# Altium footprint library ECG2.0.PcbLib: 24 footprints (part 1 of 2)
Each footprint in its own frame and in the unit in brackets; x right, y up, seen from the top. Pads: shape width x height; smd on the part's side, far side on the other; paste and mask are expansions set on the pad; w line width, h text height; cw(c..) or ccw(c..) is an arc to the next point about the centre after c.
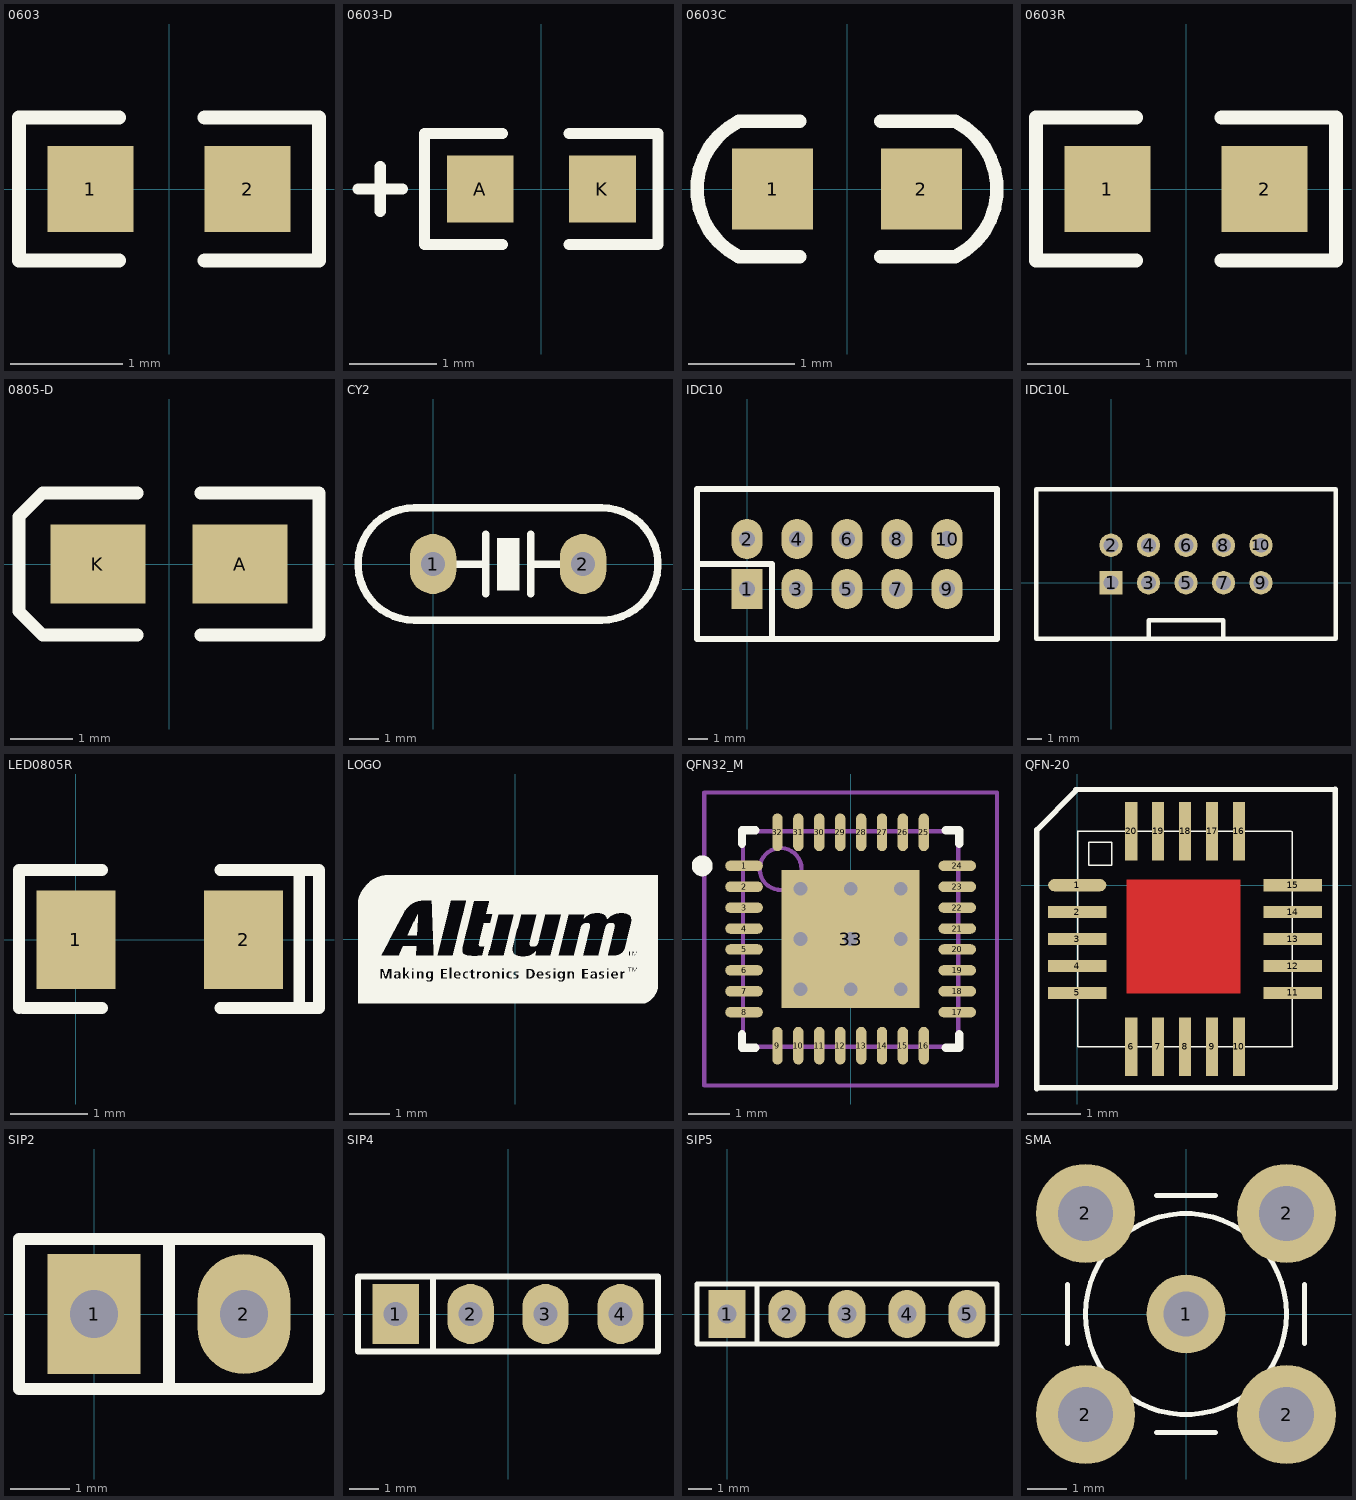
[diagram p0: the footprints below, top view; thin cyan lines are the x and y axes]

## 0603 [mil]
pads (2):
  rect 30x30 smd: 1(-27.5,0) 2(27.5,0)
Top Overlay:
  lines w5: -17.5,-25 -52.5,-25 -52.5,25 -17.5,25 ; 12.5,-25 52.5,-25 52.5,25 12.5,25
3D body "0603_R.step": height 20.79, standoff 0.79, extent -32.5,-15 30.5,17

## 0603-D [mil]
pads (2):
  rect 30x30 smd: A(-27.5,0) K(27.5,0)
Top Overlay:
  lines w5: -82.5,0 -62.5,0 ; -72.5,-10 -72.5,10 ; -17.5,-25 -52.5,-25 -52.5,25 -17.5,25 ; 12.5,-25 52.5,-25 52.5,25 12.5,25
3D body "0603_R.step": height 20.79, standoff 0.79, extent -33,-16 30,16

## 0603C [mil]
pads (2):
  rect 30x30 smd: 1(-27.5,0) 2(27.5,0)
Top Overlay:
  lines w5: -17.5,-25 -40,-25 cw(c-27.5,0) -40,25 -17.5,25 ; 12.5,-25 40,-25 ccw(c27.5,0) 40,25 12.5,25
3D body "0603_C.step": height 34.65, standoff 0, extent -31,-16 31.99,15.89

## 0603R [mil]
height 208.66
pads (2):
  rect 30x30 smd: 1(-27.5,0) 2(27.5,0)
Top Overlay:
  lines w5: -17.5,-25 -52.5,-25 -52.5,25 -17.5,25 ; 12.5,-25 52.5,-25 52.5,25 12.5,25
3D body "0603_R.step": height 20.79, standoff 0.79, extent -32.5,-15 30.5,17

## 0805-D [mil]
pads (2):
  rect 60x50 smd: A(45,0) K(-45,0)
Top Overlay:
  lines w8: -20,-45 -80,-45 -95,-30 -95,30 -80,45 -20,45 ; 20,-45 95,-45 95,45 20,45
3D body "User Library-led_0805.STEP": height 43.31, standoff 0, extent -36.61,-24.21 42.91,25

## CY2 [mil]
pads (2):
  oval 62x80 hole 32: 1(0,0) 2(200,0)
Top Overlay:
  rectangle: 85.01,-35 115.01,35
  lines w10: 0,0 70,0 ; 70,-40 70,0 ; 70,40 70,0 ; 130,-40 130,40 ; 130,0 200,0 ; -25,-75 cw(c-25,0) -25,75 225,75 cw(c225,0) 225,-75 -25,-75
3D body "hc-49s_n.stp": height 137.8, standoff -118.11, extent -116.14,-89.37 309.06,87.8

## IDC10 [mil]
pads (10):
  rect 62x80 hole 32: 1(0,0)
  oval 62x80 hole 32: 2(0,100) 3(100,0) 4(100,100) 5(200,0) 6(200,100) 7(300,0) 8(300,100) 9(400,0) 10(400,100)
Top Overlay:
  lines w12: -100,50 50,50 50,-100 ; -100,-100 500,-100 500,200 -100,200 -100,-100
3D body "User Library-BH-10___64.step": height 348.1, standoff -129.92, extent -200.79,-125 600.79,237.2

## IDC10L [mil]
pads (10):
  rect 62x62 hole 39: 1(0,0)
  round 62 hole 39: 2(0,100) 3(100,0) 4(100,100) 5(200,0) 6(200,100) 7(300,0) 8(300,100) 9(400,0) 10(400,100)
Top Overlay:
  lines w12: 100,-150 100,-100 300,-100 300,-150 ; -200,-150 600,-150 600,250 -200,250 -200,-150

## LED0805R [mil]
pads (2):
  rect 40x50 smd: 1(0,0) 2(85,0)
Top Overlay:
  lines w5.98: 113.15,-34.61 123.15,-34.61 ; 113.15,35.39 123.15,35.39
  lines w6: -28.86,-34.61 -28.86,35.39 13.15,35.39 ; -26.85,-34.61 13.15,-34.61 ; 73.15,-34.61 113.15,-34.61 113.15,35.39 73.15,35.39 ; 123.15,-34.61 123.15,35.39
3D body "User Library-led_0805.STEP": height 43.31, standoff 0, extent 3.39,-24.21 82.91,25

## LOGO [mm]
Top Overlay:
  drawing of 1840 lines, arcs and shapes, not listed

## QFN32_M [mm] "QFN, 32-Leads, Body 5x5mm, Pitch 0.5mm, IPC Low Density"
height 0.8
pads (33):
  oval 0.9x0.25 smd: 1(-2.55,1.75) 2(-2.55,1.25) 3(-2.55,0.75) 4(-2.55,0.25) 5(-2.55,-0.25) 6(-2.55,-0.75) 7(-2.55,-1.25) 8(-2.55,-1.75) 17(2.55,-1.75) 18(2.55,-1.25) 19(2.55,-0.75) 20(2.55,-0.25) 21(2.55,0.25) 22(2.55,0.75) 23(2.55,1.25) 24(2.55,1.75)
  oval 0.25x0.9 smd: 9(-1.75,-2.55) 10(-1.25,-2.55) 11(-0.75,-2.55) 12(-0.25,-2.55) 13(0.25,-2.55) 14(0.75,-2.55) 15(1.25,-2.55) 16(1.75,-2.55) 25(1.75,2.55) 26(1.25,2.55) 27(0.75,2.55) 28(0.25,2.55) 29(-0.25,2.55) 30(-0.75,2.55) 31(-1.25,2.55) 32(-1.75,2.55)
  rect 3.3x3.3 smd: 33(0,0)
via -1.2,1.2 diameter 0.66 hole 0.33
via 0,1.2 diameter 0.66 hole 0.33
via 1.2,1.2 diameter 0.66 hole 0.33
via -1.2,0 diameter 0.66 hole 0.33
via 0,0 diameter 0.66 hole 0.33
via 1.2,0 diameter 0.66 hole 0.33
via -1.2,-1.2 diameter 0.66 hole 0.33
via 0,-1.2 diameter 0.66 hole 0.33
via 1.2,-1.2 diameter 0.66 hole 0.33
Top Overlay:
  circle w0.25: c-3.55,1.75 r0.125
  lines w0.2: -2.6,-2.275 -2.6,-2.6 -2.275,-2.6 ; -2.6,2.275 -2.6,2.6 -2.275,2.6 ; 2.275,-2.6 2.6,-2.6 2.6,-2.275 ; 2.275,2.6 2.6,2.6 2.6,2.275
Mechanical 13:
  circle w0.1: c-1.675,1.675 r0.5
  lines w0.1: -2.575,-2.575 -2.575,2.575 2.575,2.575 2.575,-2.575 -2.575,-2.575
Mechanical 15:
  lines w0.1: -0.5,0 0.5,0 ; 0,-0.5 0,0.5 ; -3.5,-3.5 -3.5,3.5 3.5,3.5 3.5,-3.5 -3.5,-3.5
3D body: height 0.8, standoff 0, extent -2.575,-2.575 2.575,2.575

## QFN-20 [mm]
pads (20):
  oval 1.1x0.23 smd: 1(0,0)
  rect 1.1x0.23 smd: 2(0,-0.508) 3(0,-1.016) 4(0,-1.524) 5(0,-2.032) 11(4.064,-2.032) 12(4.064,-1.524) 13(4.064,-1.016) 14(4.064,-0.508) 15(4.064,0)
  rect 0.23x1.1 smd: 6(1.016,-3.048) 7(1.524,-3.048) 8(2.032,-3.048) 9(2.54,-3.048) 10(3.048,-3.048) 16(3.048,1.016) 17(2.54,1.016) 18(2.032,1.016) 19(1.524,1.016) 20(1.016,1.016)
Top Layer:
  region: 0.926,0.104 0.926,-2.046 3.076,-2.046 3.076,0.104
  lines w0.025: -0.762,-3.841 -0.741,-3.821 ; -0.014,1.792 -0.014,1.812 ; 4.85,1.802 4.861,1.812
Top Overlay:
  lines w0.025: 0.012,-3.044 0.012,1.022 ; 0.018,-3.051 0.021,-3.048 4.063,-3.048 4.05,-3.036 4.05,1.004 4.038,1.016 3.054,1.016 0.017,1.016 0.018,1.015 ; 0.215,0.811 0.215,0.376 0.65,0.376 ; 0.219,0.811 0.654,0.811 0.654,0.376
  lines w0.1: -0.762,-3.841 -0.762,1.012 ; -0.762,1.043 -0.014,1.792 ; -0.741,-3.821 4.861,-3.821 4.861,1.812 ; -0.034,1.802 4.85,1.802

## SIP2 [mil]
pads (2):
  rect 62x80 hole 32: 1(0,0)
  oval 62x80 hole 32: 2(100,0)
Top Overlay:
  lines w8: 50,-50 50,50 ; -50,-50 150,-50 150,50 -50,50 -50,-50
3D body "User Library-PLD-2.step": height 336.22, standoff -118.11, extent -50,-50 150,50
3D body "User Library-Jumper.step": height 646.1, standoff 101.93, extent -48.43,-47.24 148.43,47.24

## SIP4 [mil]
pads (4):
  rect 62x80 hole 32: 1(-150,0)
  oval 62x80 hole 32: 2(-50,0) 3(50,0) 4(150,0)
Top Overlay:
  lines w8: -100,-50 -100,50 ; -200,-50 200,-50 200,50 -200,50 -200,-50
3D body "1001-4.STEP": height 118.11, standoff -336.22, extent -200,-50 200,50

## SIP5 [mil]
pads (5):
  rect 62x80 hole 32: 1(0,0)
  oval 62x80 hole 32: 2(100,0) 3(200,0) 4(300,0) 5(400,0)
Top Overlay:
  lines w8: 50,-50 50,50 ; -50,-50 -50,50 450,50 450,-50 -50,-50
3D body "1001-5.STEP": height 118.11, standoff -336.22, extent -50,-50 450,50

## SMA [mm] "Connector; RF Coaxial, MCX, Thru-Hole; 5 Position; Right-Angle"
height 5.85
pads (5):
  round 2 hole 1.143: 1(0,0)
  round 2.5 hole 1.397: 2(-2.54,-2.54) 2(-2.54,2.54) 2(2.54,-2.54) 2(2.54,2.54)
Top Overlay:
  circle w0.127: c0,0 r2.54
  lines w0.127: -3,-0.74 -3,0.74 ; -0.74,-3 0.74,-3 ; -0.74,3 0.74,3 ; 3,-0.74 3,0.74